# Altium footprint library 691328310008.PcbLib: 1 footprints
Each footprint in its own frame and in the unit in brackets; x right, y up, seen from the top. Pads: shape width x height; smd on the part's side, far side on the other; paste and mask are expansions set on the pad; w line width, h text height; cw(c..) or ccw(c..) is an arc to the next point about the centre after c.
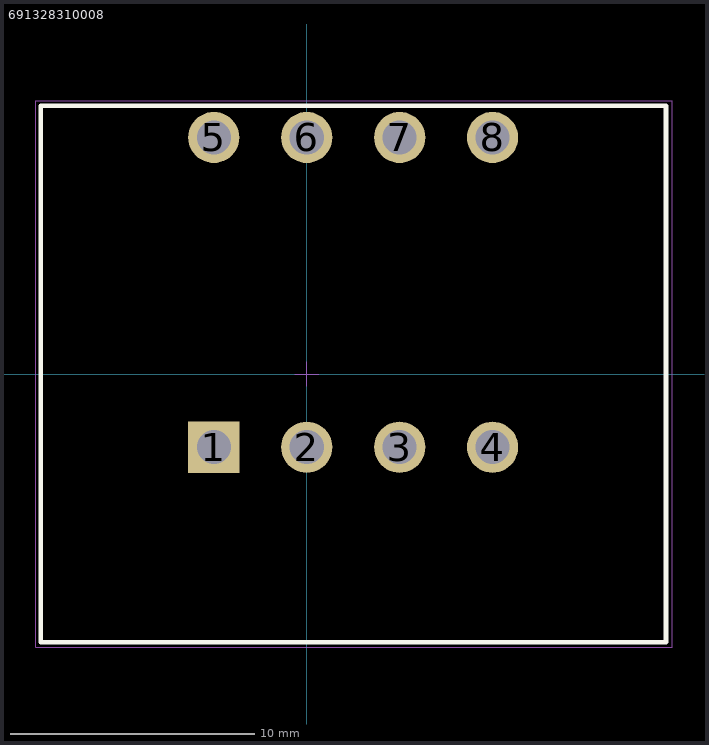
[diagram p0: the footprint, top view; thin cyan lines are the x and y axes]

## 691328310008 [mm]
pads (8):
  rect 2.1x2.1 hole 1.4: 1(-3.81,-3)
  round 2.1 hole 1.4: 2(0,-3) 3(3.81,-3) 4(7.62,-3) 5(-3.81,9.7) 6(0,9.7) 7(3.81,9.7) 8(7.62,9.7)
Top Overlay:
  lines w0.2: -10.91,-11 -10.91,11 14.732,11 14.732,-11 -10.91,-11
Top Assembly:
  lines w0.05: -0.5,0 0.5,0 ; 0,-0.5 0,0.5
  lines w0.1: -10.91,-11 14.732,-11 14.732,11 -10.91,11 -10.91,-11
Top Courtyard:
  lines w0.05: -11.11,-11.2 -11.11,11.2 14.986,11.2 14.986,-11.2 -11.11,-11.2
3D body "691328310008_Download_STP_691328310008_rev1.stp": height 22.7, standoff -3.5, extent -10.898,-10.998 14.732,11.002